# EAGLE library part BLUETOOTH-RN42 (library sduino)
Bluetooth SMD module
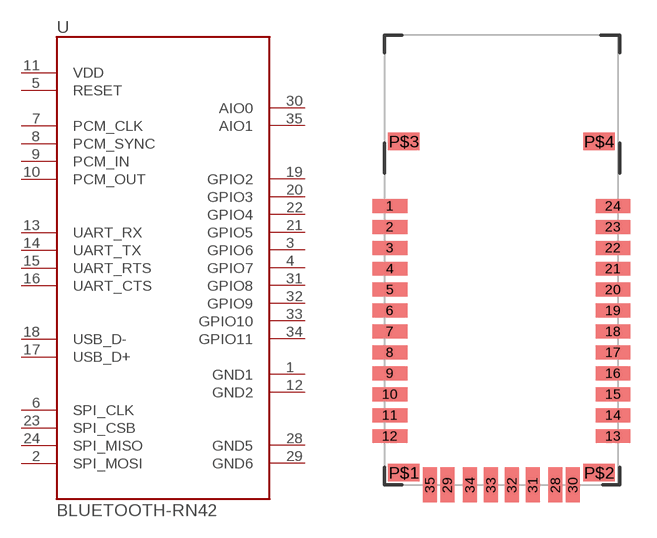
[diagram p5: symbol with the pads of RN42; footprint RN42]

Designator prefix -

## BLUETOOTH-RN42"  [RN42]
1  GND1
2  SPI_MOSI
3  GPIO6
4  GPIO7
5  RESET
6  SPI_CLK
7  PCM_CLK
8  PCM_SYNC
9  PCM_IN
10  PCM_OUT
11  VDD
12  GND2
13  UART_RX
14  UART_TX
15  UART_RTS
16  UART_CTS
17  USB_D+
18  USB_D-
19  GPIO2
20  GPIO3
21  GPIO5
22  GPIO4
23  SPI_CSB
24  SPI_MISO
28  GND5
29  GND6
30  AIO0
31  GPIO8
32  GPIO9
33  GPIO10
34  GPIO11
35  AIO1

## Footprint RN42 (pad centres in mm)
smd 2 x 0.8: 1 0.3,16; 2 0.3,14.8; 3 0.3,13.6; 4 0.3,12.4; 5 0.3,11.2; 6 0.3,10; 7 0.3,8.8; 8 0.3,7.6; 9 0.3,6.4; 10 0.3,5.2; 11 0.3,4; 12 0.3,2.8; 13 13.1,2.8; 14 13.1,4; 15 13.1,5.2; 16 13.1,6.4; 17 13.1,7.6; 18 13.1,8.8; 19 13.1,10; 20 13.1,11.2; 21 13.1,12.4; 22 13.1,13.6; 23 13.1,14.8; 24 13.1,16
smd 0.8 x 2: 28 9.8,0; 29 3.6,0; 30 10.8,0; 31 8.5,0; 32 7.3,0; 33 6.1,0; 34 4.9,0; 35 2.6,0
smd 1.8 x 1: P$1 1.1,0.7; P$2 12.3,0.7; P$3 1.1,19.7; P$4 12.3,19.7